# EAGLE library part A3G4250D (library gyrolib)
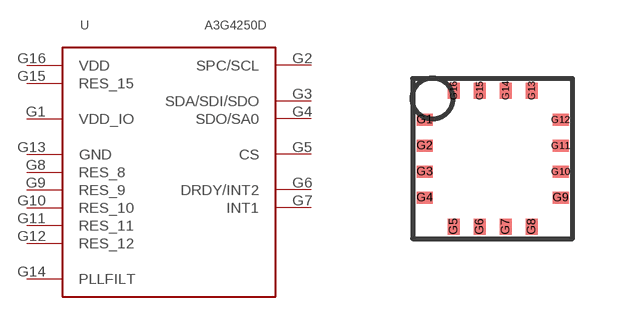
[diagram p3: symbol with the pads of LGA-16; footprint LGA-16]

Designator prefix -

## A3G4250D  [LGA-16]
G1  VDD_IO
G2  SPC/SCL
G3  SDA/SDI/SDO
G4  SDO/SA0
G5  CS
G6  DRDY/INT2
G7  INT1
G8  RES_8
G9  RES_9
G10  RES_10
G11  RES_11
G12  RES_12
G13  GND
G14  PLLFILT
G15  RES_15
G16  VDD

## Footprint LGA-16 (pad centres in mm)
smd 0.4 x 0.3: G1 -1.7,0.975; G2 -1.7,0.325; G3 -1.7,-0.325; G4 -1.7,-0.975; G9 1.7,-0.975; G10 1.7,-0.325; G11 1.7,0.325; G12 1.7,0.975
smd 0.3 x 0.4: G5 -0.975,-1.7; G6 -0.325,-1.7; G7 0.325,-1.7; G8 0.975,-1.7; G13 0.975,1.7; G14 0.325,1.7; G15 -0.325,1.7; G16 -0.975,1.7